# Altium integrated library JST Connectors.IntLib: 5 symbols
Pins are listed as number, name and electrical type; pins without a type are passive.

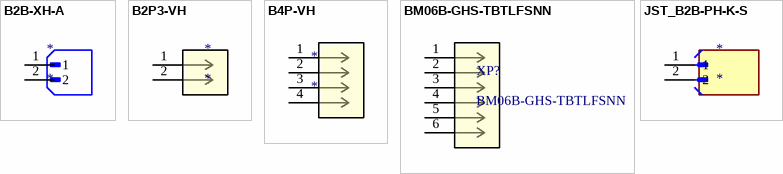
[diagram p0: symbols B2B-XH-A to JST_B2B-PH-K-S]

## B2B-XH-A
designator *
footprint B2B-XH-A
pins: 1, 2

## B2P3-VH
designator *
footprint B2P3-VH
pins: 1, 2

## B4P-VH
designator *
footprint B4P-VH
pins: 1, 2, 3, 4

## BM06B-GHS-TBTLFSNN
designator XP?
footprint BM06B-GHS_TBT
pins: 1, 2, 3, 4, 5, 6

## JST_B2B-PH-K-S
designator *
footprint B2B-PH-K-S
pins: 1, 2